# EAGLE library part 09563517513 (library D-Sub Connectors)
CONN DSUB HD RCPT 44P VERT SLDR Manufacturer's datasheet <https://b2b.harting.com/files/download/PRD/PDF_TS/0956351X513_100513345DRW001B.pdf>
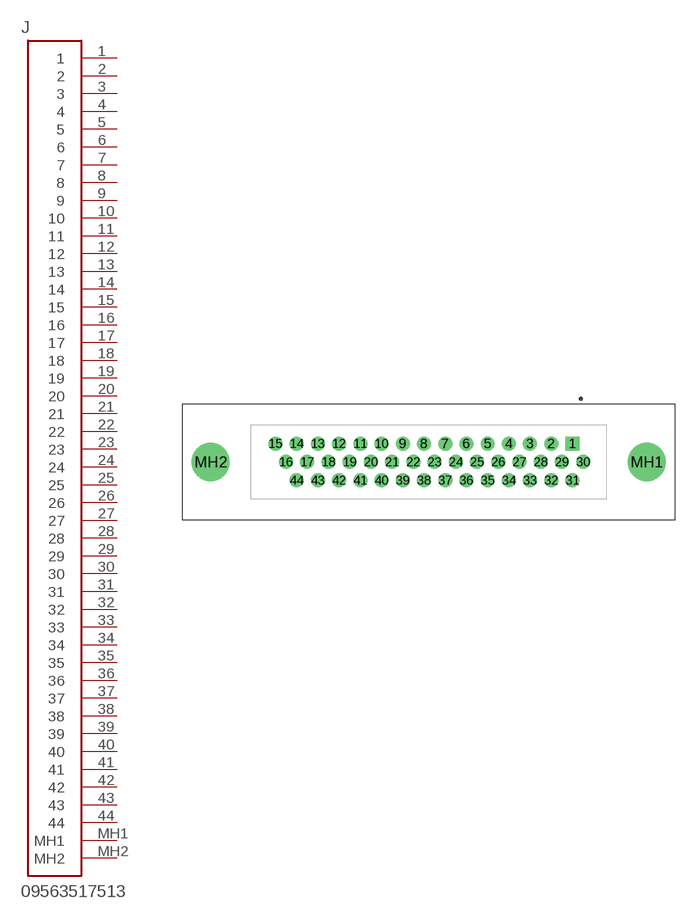
[diagram p4: symbol with the pads of 09563517513; footprint 09563517513]

Designator prefix J

## 09563517513 (CREATED_BY: PCBLayout.com; DIGI_KEY_PART_NUMBER: 1195-2324-ND; MANUFACTURER: HARTING; MPN: 09563517513)  [09563517513]
1  1  pas
2  2  pas
3  3  pas
4  4  pas
5  5  pas
6  6  pas
7  7  pas
8  8  pas
9  9  pas
10  10  pas
11  11  pas
12  12  pas
13  13  pas
14  14  pas
15  15  pas
16  16  pas
17  17  pas
18  18  pas
19  19  pas
20  20  pas
21  21  pas
22  22  pas
23  23  pas
24  24  pas
25  25  pas
26  26  pas
27  27  pas
28  28  pas
29  29  pas
30  30  pas
31  31  pas
32  32  pas
33  33  pas
34  34  pas
35  35  pas
36  36  pas
37  37  pas
38  38  pas
39  39  pas
40  40  pas
41  41  pas
42  42  pas
43  43  pas
44  44  pas
MH1  MH1  pas
MH2  MH2  pas

## Footprint 09563517513 (pad centres in mm)
drill 1 square: 1 15.52,1.98
drill 1: 2 13.23,1.98; 3 10.94,1.98; 4 8.65,1.98; 5 6.36,1.98; 6 4.07,1.98; 7 1.78,1.98; 8 -0.51,1.98; 9 -2.8,1.98; 10 -5.09,1.98; 11 -7.38,1.98; 12 -9.67,1.98; 13 -11.96,1.98; 14 -14.25,1.98; 15 -16.54,1.98; 16 -15.39,0; 17 -13.1,0; 18 -10.81,0; 19 -8.52,0; 20 -6.23,0; 21 -3.94,0; 22 -1.65,0; 23 0.64,0; 24 2.93,0; 25 5.22,0; 26 7.51,0; 27 9.8,0; 28 12.09,0; 29 14.38,0; 30 16.67,0; 31 15.52,-1.98; 32 13.23,-1.98; 33 10.94,-1.98; 34 8.65,-1.98; 35 6.36,-1.98; 36 4.07,-1.98; 37 1.78,-1.98; 38 -0.51,-1.98; 39 -2.8,-1.98; 40 -5.09,-1.98; 41 -7.38,-1.98; 42 -9.67,-1.98; 43 -11.96,-1.98; 44 -14.25,-1.98
drill 3.1: MH1 23.52,0; MH2 -23.52,0